# Altium footprint library 41.PcbLib: 28 footprints (part 2 of 2)
Each footprint in its own frame and in the unit in brackets; x right, y up, seen from the top. Pads: shape width x height; smd on the part's side, far side on the other; paste and mask are expansions set on the pad; w line width, h text height; cw(c..) or ccw(c..) is an arc to the next point about the centre after c.
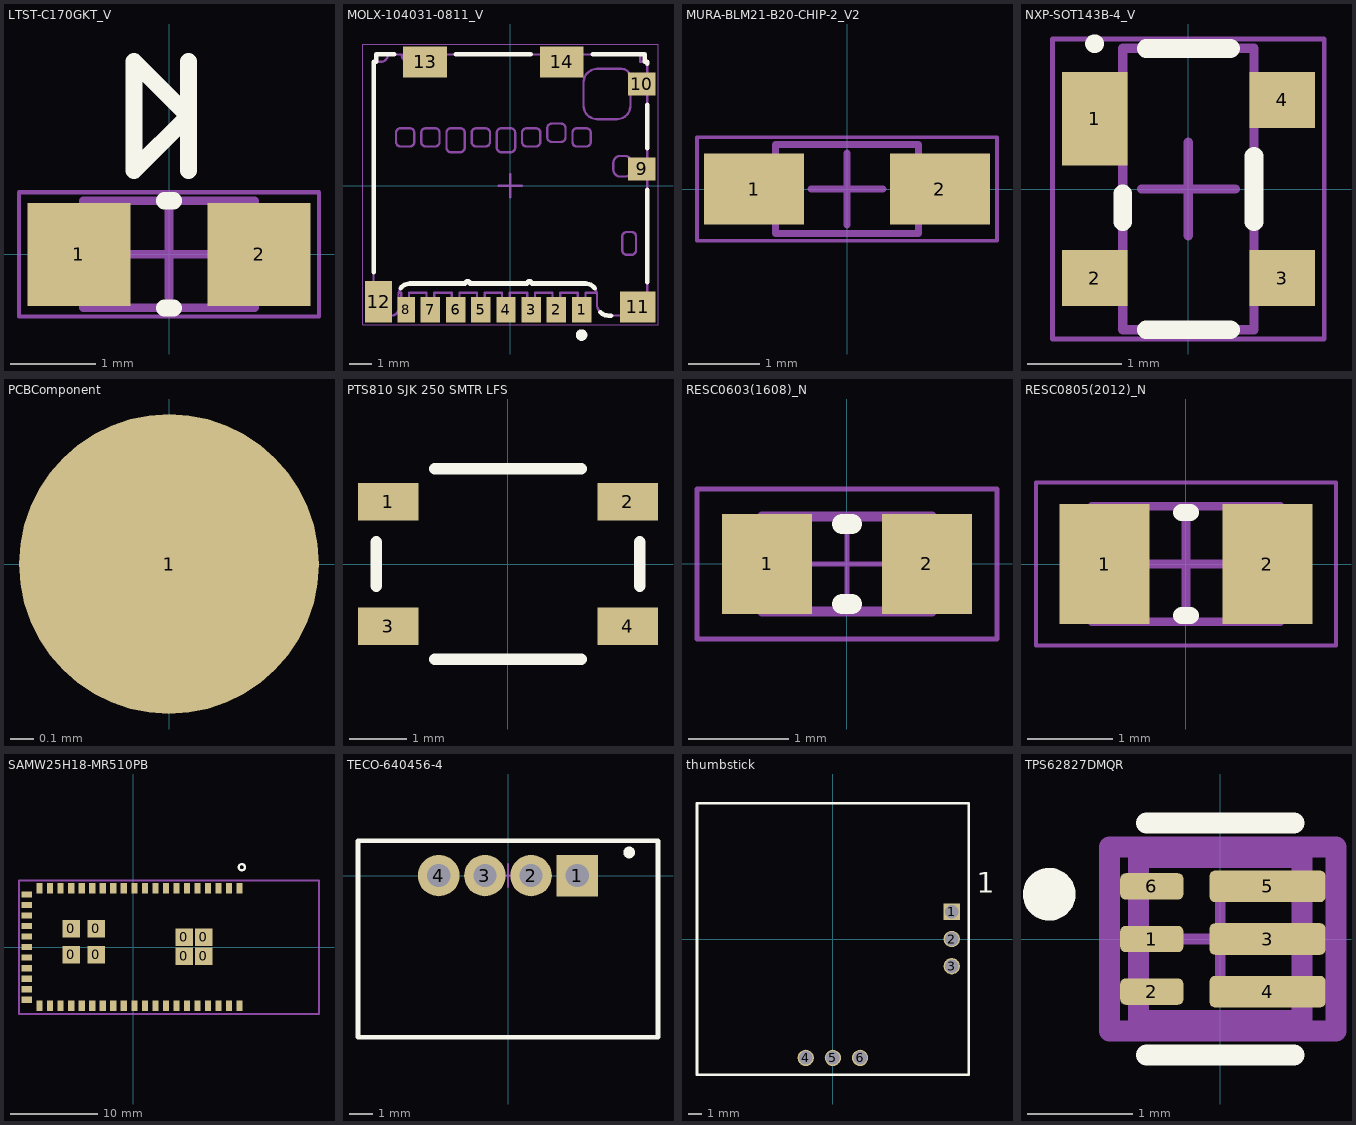
[diagram p1: the footprints below, top view; thin cyan lines are the x and y axes]

## LTST-C170GKT_V [mm] "SMD, 2-Leads, Body 2x1.25mm"
height 1.1
pads (2):
  rect 1.2x1.2 smd: 1(-1.05,0) 2(1.05,0)
Top Overlay:
  lines w0.2: -0.051,-0.625 0.051,-0.625 ; -0.051,0.625 0.051,0.625 ; 0.227,0.98 0.227,2.25 ; -0.408,0.98 -0.408,2.25 0.227,1.615 -0.408,0.98
Mechanical 13:
  lines w0.1: -0.7,-0.625 -0.7,0.625 ; 0.7,-0.625 0.7,0.625 ; -1,-0.625 1,-0.625 1,0.625 -1,0.625 -1,-0.625
Mechanical 15:
  lines w0.05: -1.75,-0.725 -1.75,0.725 1.75,0.725 1.75,-0.725 -1.75,-0.725
  lines w0.1: -0.5,0 0.5,0 ; 0,-0.5 0,0.5
3D body: height 1.1, standoff 0.5, extent -0.7,-0.625 0.7,0.625
3D body: height 0.5, standoff 0, extent -1,-0.625 1,0.625

## MOLX-104031-0811_V [mm] "Micro SD, 8-Leads, Body 11.95x11.4mm, Pitch 1.1mm"
height 1.57
pads (14):
  rect 0.85x1.1 smd: 1(3.113,-5.412) 2(2.013,-5.412) 3(0.913,-5.412) 4(-0.188,-5.412) 5(-1.288,-5.412) 6(-2.387,-5.412) 7(-3.487,-5.412)
  rect 0.75x1.1 smd: 8(-4.537,-5.412)
  rect 1.2x1 smd: 9(5.748,0.738) 10(5.748,4.438)
  rect 1.55x1.35 smd: 11(5.573,-5.287)
  rect 1.17x1.8 smd: 12(-5.747,-5.062)
  rect 1.9x1.35 smd: 13(-3.722,5.413) 14(2.248,5.413)
Top Overlay:
  circle w0.25: c3.113,-6.512 r0.125
  lines w0.2: -5.968,-3.762 -5.968,5.418 -5.848,5.418 -5.848,5.738 -5.343,5.738 -5.072,5.738 ; -4.777,-4.462 cw(c-4.378,-4.762) -4.378,-4.262 -1.962,-4.262 cw(c-1.862,-4.262) -1.862,-4.162 cw(c-1.862,-4.262) -1.762,-4.262 0.738,-4.262 cw(c0.838,-4.262) 0.838,-4.162 cw(c0.838,-4.262) 0.938,-4.262 3.283,-4.262 cw(c3.283,-4.762) 3.692,-4.476 ; -2.372,5.738 0.898,5.738 ; 3.598,5.738 5.678,5.738 5.863,5.738 5.863,5.418 5.983,5.418 5.983,5.338 ; 3.938,-5.525 ccw(c4.283,-5.162) 4.283,-5.662 4.397,-5.662 ; 5.977,-4.212 5.977,-0.162 ; 5.983,1.638 5.983,3.538
Mechanical 13:
  drawing of 227 lines, arcs and shapes, not listed
Mechanical 15:
  lines w0.05: -6.432,-6.062 -6.432,6.188 6.448,6.188 6.448,-6.062 -6.432,-6.062
  lines w0.1: -0.5,0 0.5,0 ; 0,-0.5 0,0.5
3D body: height 1.45, standoff 0, extent -5.967,-5.662 5.983,5.738

## MURA-BLM21-B20-CHIP-2_V2 [mm] "Chip Ferrite Bead, 2-Leads, Body 2x1.25mm, Height 1.05mm, 35/70um Land Pad Thickness, 2A Rated Current"
height 1.05
pads (2):
  rect 1.4x1 smd: 1(-1.3,0) 2(1.3,0)
Mechanical 13:
  lines w0.1: -1,-0.625 1,-0.625 1,0.625 -1,0.625 -1,-0.625
Mechanical 15:
  lines w0.05: -2.1,-0.725 -2.1,0.725 2.1,0.725 2.1,-0.725 -2.1,-0.725
  lines w0.1: -0.5,0 0.5,0 ; 0,-0.5 0,0.5
3D body: height 1.05, standoff 0, extent -1,-0.625 1,0.625

## NXP-SOT143B-4_V [mm] "SOT143, 4-Leads, Body 3x1.4mm"
height 1.1
pads (4):
  rect 0.7x1 smd: 1(-1,0.75)
  rect 0.7x0.6 smd: 2(-1,-0.95) 3(1,-0.95) 4(1,0.95)
Top Overlay:
  circle w0.1: c-1,1.55 r0.05
  lines w0.2: -0.7,-0.35 -0.7,-0.05 ; -0.45,-1.5 0.45,-1.5 ; -0.45,1.5 0.45,1.5 ; 0.7,-0.35 0.7,0.35
Mechanical 13:
  lines w0.1: -0.7,-1.5 -0.7,1.5 0.7,1.5 0.7,-1.5 -0.7,-1.5
Mechanical 15:
  lines w0.05: -1.45,-1.6 -1.45,1.6 1.45,1.6 1.45,-1.6 -1.45,-1.6
  lines w0.1: -0.5,0 0.5,0 ; 0,-0.5 0,0.5
3D body: height 1.1, standoff 0, extent -0.7,-1.5 0.7,1.5

## PCBComponent [mm]
pads (1):
  round 1.27 smd mask+0: 1(0,0)
3D body: height 0, standoff -0.02, extent -0.63,-0.634 0.635,0.634

## PTS810 SJK 250 SMTR LFS [mm] "SWITCH TACTILE SPST-NO 0.05A 16V"
pads (4):
  rect 1.05x0.65 smd: 1(-2.075,1.075) 2(2.075,1.075) 3(-2.075,-1.075) 4(2.075,-1.075)
Top Overlay:
  lines w0.203: -2.286,-0.381 -2.286,0.381 ; -1.27,-1.651 1.27,-1.651 ; -1.27,1.651 1.27,1.651 ; 2.286,-0.381 2.286,0.381
3D body: height 2.5, standoff 0, extent -2.3,-1.6 2.3,1.6

## RESC0603(1608)_N [mm] "Chip Resistor, Body 1.6x0.8mm, IPC Medium Density"
height 0.6
pads (2):
  rect 0.9x1 smd: 1(-0.8,0) 2(0.8,0)
Top Overlay:
  lines w0.2: -0.05,-0.4 0.05,-0.4 ; -0.05,0.4 0.05,0.4
Mechanical 13:
  lines w0.1: -0.85,-0.475 0.85,-0.475 0.85,0.475 -0.85,0.475 -0.85,-0.475
Mechanical 15:
  lines w0.05: -0.475,0 0.475,0 ; 0,-0.475 0,0.475 ; -1.5,-0.75 1.5,-0.75 1.5,0.75 -1.5,0.75 -1.5,-0.75
3D body: height 0.6, standoff 0, extent -0.849,-0.474 -0.58,0.475
3D body: height 0.6, standoff 0, extent -0.58,-0.474 0.581,0.475
3D body: height 0.6, standoff 0, extent 0.581,-0.474 0.85,0.475

## RESC0805(2012)_N [mm] "Chip Resistor, Body 2.0x1.3mm, IPC Medium Density"
height 0.7
pads (2):
  rect 1.05x1.4 smd: 1(-0.95,0) 2(0.95,0)
Top Overlay:
  lines w0.2: -0.05,-0.6 0.05,-0.6 ; -0.05,0.6 0.05,0.6
Mechanical 13:
  lines w0.1: -1.1,-0.675 -1.1,0.675 1.1,0.675 1.1,-0.675 -1.1,-0.675
Mechanical 15:
  lines w0.05: -1.75,-0.95 -1.75,0.95 1.75,0.95 1.75,-0.95 -1.75,-0.95
  lines w0.1: -0.5,0 0.5,0 ; 0,-0.5 0,0.5
3D body: height 0.7, standoff 0, extent 0.68,-0.675 1.1,0.675
3D body: height 0.7, standoff 0, extent -0.68,-0.675 0.68,0.675
3D body: height 0.7, standoff 0, extent -1.1,-0.675 -0.68,0.675

## SAMW25H18-MR510PB [mm] "RF TXRX MODULE WIFI TRACE ANT"
pads (59):
  rect 2x2 smd: 0(-7.065,-0.839) 0(-7.065,2.085) 0(-4.21,-0.839) 0(-4.21,2.085)
  rect 2x2 smd mask+0.127: 0(5.828,-1.045) 0(5.828,1.137) 0(8.046,-1.045) 0(8.046,1.137)
  rect 0.7x1.2 smd: 1(12.121,6.7) 2(10.921,6.7) 3(9.721,6.7) 4(8.521,6.7) 5(7.321,6.7) 6(6.121,6.7) 7(4.921,6.7) 8(3.721,6.7) 9(2.521,6.7) 10(1.321,6.7) 11(0.121,6.7) 12(-1.079,6.7) 13(-2.279,6.7) 14(-3.479,6.7) 15(-4.679,6.7) 16(-5.879,6.7) 17(-7.079,6.7) 18(-8.279,6.7) 19(-9.479,6.7) 20(-10.679,6.7) 32(-10.679,-6.7) 33(-9.479,-6.7) 34(-8.279,-6.7) 35(-7.079,-6.7) 36(-5.879,-6.7) 37(-4.679,-6.7) 38(-3.479,-6.7) 39(-2.279,-6.7) 40(-1.079,-6.7) 41(0.121,-6.7) 42(1.321,-6.7) 43(2.521,-6.7) 44(3.721,-6.7) 45(4.921,-6.7) 46(6.121,-6.7) 47(7.321,-6.7) 48(8.521,-6.7) 49(9.721,-6.7) 50(10.921,-6.7) 51(12.121,-6.7)
  rect 1.2x0.7 smd: 21(-12.12,6.004) 22(-12.12,4.804) 23(-12.12,3.604) 24(-12.12,2.404) 25(-12.12,1.204) 26(-12.12,0.004) 27(-12.12,-1.196) 28(-12.12,-2.396) 29(-12.12,-3.596) 30(-12.12,-4.796) 31(-12.12,-5.996)
Top Overlay:
  circle w0.254: c12.382,9.118 r0.358
Mechanical 3:
  lines w0.254: -13.031,-7.612 21.179,-7.612 21.179,7.597 -13.031,7.597 -13.031,-7.612
3D body: height 3.37, standoff -0.03, extent -12.885,-7.452 20.978,7.455

## TECO-640456-4 [mm] "Through Hole, 4-Leads, Body 10.16x5.72mm, Pitch 2.54mm"
height 10.03
pads (4):
  rect 1.8x1.8 hole 1 paste+0 mask+0.08: 1(3,0)
  round 1.8 hole 1 paste+0 mask+0.08: 2(1,0) 3(-1,0) 4(-3,0)
Top Overlay:
  circle w0.25: c5.25,1 r0.127
  lines w0.2: -6.5,-7 -6.5,1.5 6.5,1.5 6.5,-7 -6.5,-7
Mechanical 13:
  lines w0.1: -6.5,-7 6.5,-7 6.5,1.5 -6.5,1.5 -6.5,-7
Mechanical 15:
  lines w0.05: -6.5,-7 -6.5,1.5 6.5,1.5 6.5,-7 -6.5,-7
  lines w0.1: -0.5,0 0.5,0 ; 0,-0.5 0,0.5
3D body: height 5.01, standoff -1.99, extent -5.975,-6.35 5.975,0.25

## thumbstick [mm]
pads (6):
  rect 1.2x1.2 hole 1: 1(8.75,2)
  round 1.2 hole 1: 2(8.75,0) 3(8.75,-2) 4(-2,-8.75) 5(0,-8.75) 6(2,-8.75)
Top Overlay:
  lines w0.2: -10,-10 10,-10 10,10 -10,10 -10,-10
  text "1" at 10.579,3.404 h1.5
3D body: height 12, standoff -3.1, extent -8.85,-8.975 8.85,8.975

## TPS62827DMQR [mm]
pads (6):
  rrect40% 0.6x0.25 smd paste+0 mask-1000: 1(-0.65,0) 2(-0.65,-0.5) 6(-0.65,0.5)
  rrect33% 1.1x0.3 smd paste-1000 mask-1000: 3(0.45,0) 4(0.45,-0.5) 5(0.45,0.5)
Top Overlay:
  circle w0.25: c-1.625,0.425 r0.125
  lines w0.2: -0.7,-1.1 0.7,-1.1 ; -0.7,1.1 0.7,1.1
Top Paste:
  region: 0.1,0.45 0.096,0.55 0.112,0.588 0.15,0.604 0.15,0.6 0.9,0.604 0.938,0.588 0.954,0.55 0.95,0.55 0.954,0.45 0.938,0.412 0.9,0.396 0.9,0.4 0.15,0.396 0.112,0.412 0.096,0.45
  region: 0.95,0.05 0.954,-0.05 0.938,-0.088 0.9,-0.104 0.9,-0.1 0.15,-0.104 0.112,-0.088 0.096,-0.05 0.1,-0.05 0.096,0.05 0.112,0.088 0.15,0.104 0.15,0.1 0.9,0.104 0.938,0.088 0.954,0.05
  region: 0.9,-0.396 0.938,-0.412 0.954,-0.45 0.95,-0.45 0.954,-0.55 0.938,-0.588 0.9,-0.604 0.9,-0.6 0.15,-0.604 0.112,-0.588 0.096,-0.55 0.1,-0.55 0.096,-0.45 0.112,-0.412 0.15,-0.396 0.15,-0.4
Top Solder:
  region: 0.9,-0.396 0.938,-0.412 0.954,-0.45 0.95,-0.45 0.954,-0.55 0.938,-0.588 0.9,-0.604 0.9,-0.6 0,-0.604 -0.038,-0.588 -0.054,-0.55 -0.05,-0.55 -0.054,-0.45 -0.038,-0.412 0,-0.396 0,-0.4
  region: -0.054,0.05 -0.038,0.088 0,0.104 0,0.1 0.9,0.104 0.938,0.088 0.954,0.05 0.95,0.05 0.954,-0.05 0.938,-0.088 0.9,-0.104 0.9,-0.1 0,-0.104 -0.038,-0.088 -0.054,-0.05 -0.05,-0.05
  region: -0.054,0.55 -0.038,0.588 0,0.604 0,0.6 0.9,0.604 0.938,0.588 0.954,0.55 0.95,0.55 0.954,0.45 0.938,0.412 0.9,0.396 0.9,0.4 0,0.396 -0.038,0.412 -0.054,0.45 -0.05,0.45
  region: -0.35,-0.321 -0.312,-0.337 -0.296,-0.375 -0.3,-0.375 -0.296,-0.625 -0.312,-0.663 -0.35,-0.679 -0.35,-0.675 -0.95,-0.679 -0.988,-0.663 -1.004,-0.625 -1,-0.625 -1.004,-0.375 -0.988,-0.337 -0.95,-0.321 -0.95,-0.325
  region: -0.35,0.179 -0.312,0.163 -0.296,0.125 -0.3,0.125 -0.296,-0.125 -0.312,-0.163 -0.35,-0.179 -0.35,-0.175 -0.95,-0.179 -0.988,-0.163 -1.004,-0.125 -1,-0.125 -1.004,0.125 -0.988,0.163 -0.95,0.179 -0.95,0.175
  region: -0.35,0.325 -0.95,0.321 -0.988,0.337 -1.004,0.375 -1,0.375 -1.004,0.625 -0.988,0.663 -0.95,0.679 -0.95,0.675 -0.35,0.679 -0.312,0.663 -0.296,0.625 -0.3,0.625 -0.296,0.375 -0.312,0.337 -0.35,0.321
Mechanical 10:
  lines w0.2: -1.05,-0.875 -1.05,0.875 1.1,0.875 1.1,-0.875 -1.05,-0.875
Mechanical 12:
  lines w0.2: -0.775,-0.775 -0.775,0.775 0.775,0.775 0.775,-0.775 -0.775,-0.775
Mechanical 15:
  lines w0.1: -0.5,0 0.5,0 ; 0,-0.5 0,0.5
  lines w0.2: -1.05,-0.875 -1.05,0.875 1.1,0.875 1.1,-0.875 -1.05,-0.875
3D body: height 0.25, standoff 0, extent -1.05,-0.875 1.1,0.875